# Altium schematic symbol library shield_SCH_LIB.SchLib: 12 symbols
Pins are listed as number, name and electrical type; pins without a type are passive.

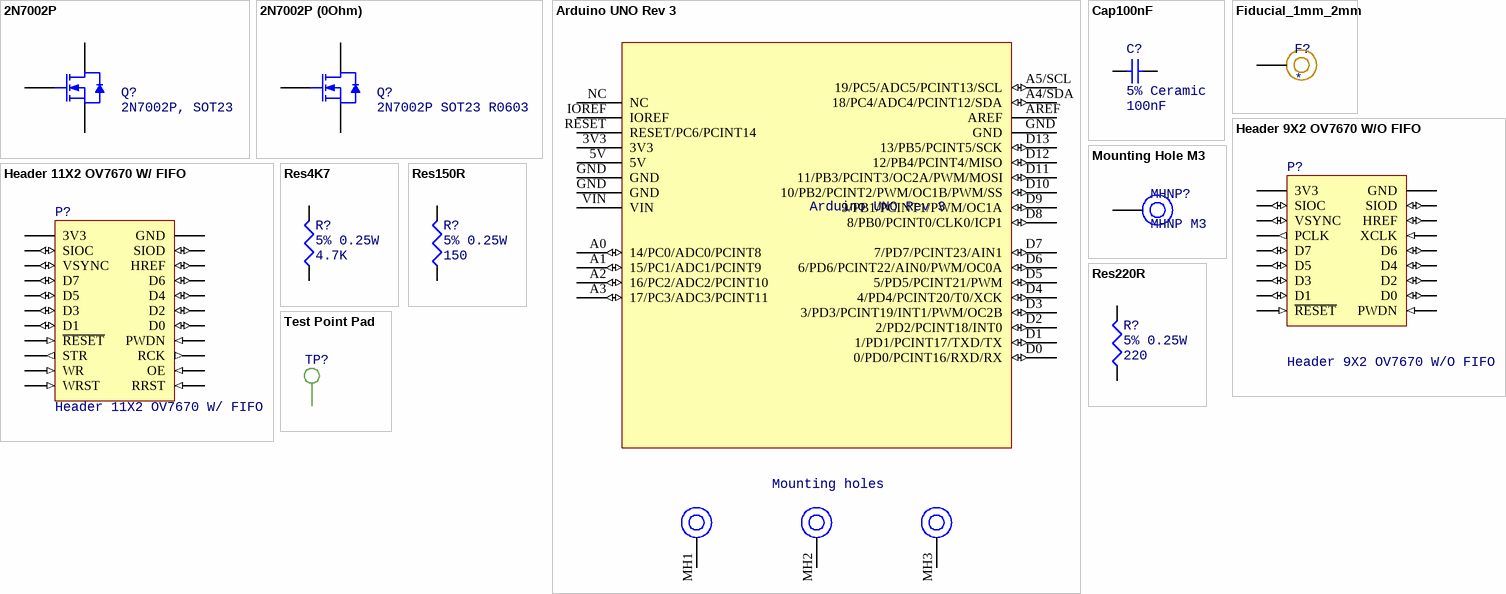
[diagram p0: symbols 2N7002P to Test Point Pad]

## 2N7002P
designator Q?, comment 2N7002P, SOT23
N-Channel MOSFET 2N7002P SOT23
footprint 2N7002P SOT23 (NMOS 2N7002P in SOT23 package)
pins: 1 G, 2 D, 3 S

## 2N7002P (0Ohm)
designator Q?, comment 2N7002P SOT23 R0603
N-Channel MOSFET 2N7002P SOT23 / version with footprint compatible with 0 Ohm 0603 resistor
footprint 2N7002P SOT23 WITH LARGE G,D PADS (NMOS 2N7002P in SOT23 package)
pins: 1 G, 2 D, 3 S

## Arduino UNO Rev 3
designator MCU?
Arduino UNO Rev 3 pinout
footprint Arduino UNO Rev 3 (Arduino UNO Rev 3 pinout as pads V2)
pins: 3V3 (power), 5V (power), A0 14/PC0/ADC0/PCINT8 (io), A1 15/PC1/ADC1/PCINT9 (io), A2 16/PC2/ADC2/PCINT10 (io), A3 17/PC3/ADC3/PCINT11 (io), A4/SDA 18/PC4/ADC4/PCINT12/SDA (io), A5/SCL 19/PC5/ADC5/PCINT13/SCL (io), AREF, D0 0/PD0/PCINT16/RXD/RX (io), D1 1/PD1/PCINT17/TXD/TX (io), D2 2/PD2/PCINT18/INT0 (io), D3 3/PD3/PCINT19/INT1/PWM/OC2B (io), D4 4/PD4/PCINT20/T0/XCK (io), D5 5/PD5/PCINT21/PWM (io), D6 6/PD6/PCINT22/AIN0/PWM/OC0A (io), D7 7/PD7/PCINT23/AIN1 (io), D8 8/PB0/PCINT0/CLK0/ICP1 (io), D9 9/PB1/PCINT1/PWM/OC1A (io), D10 10/PB2/PCINT2/PWM/OC1B/PWM/SS (io), D11 11/PB3/PCINT3/OC2A/PWM/MOSI (io), D12 12/PB4/PCINT4/MISO (io), D13 13/PB5/PCINT5/SCK (io), GND (power), GND (power), GND (power), IOREF, MH1, MH2, MH3, NC, RESET RESET/PC6/PCINT14, VIN (power)
text: Mounting holes

## Cap100nF
designator C?, comment 5% Ceramic  value 100nF
SMD Ceramic Capacitor 100nF 5% 0805; Published: 8-Jun-2000; LatestRevisionDate: 17-Jul-2002; LatestRevisionNote: Re-released for DXP Platform.; PackageReference: RAD-0.3; Publisher: Altium Limited; PackageDescription: Radial Cap, Thru-Hole; 2 Leads; 0.3 in Pin Spacing
footprint 0805 CAP
pins: 1, 2

## Fiducial_1mm_2mm
designator F?
Fiducial 1mm pad, 2mm solder resist
footprint FIDUCIAL_1MM_2MM
pins: 1

## Header 9X2 OV7670 W/O FIFO
designator P?
Header, 9-Pin, Dual row. Pinout of OV7670 module without FIFO buffer.; Publisher: Altium Limited
signal-integrity model Connector
footprint 9x2 PIN HEADER (9x2 pin header THT100mil x 100mil)
pins: 1 3V3 (power), 2 GND (power), 3 SIOC (io), 4 SIOD (io), 5 VSYNC (io), 6 HREF (io), 7 PCLK (out), 8 XCLK (in), 9 D7 (io), 10 D6 (io), 11 D5 (io), 12 D4 (io), 13 D3 (io), 14 D2 (io), 15 D1 (io), 16 D0 (io), 17 ~{RESET} (in), 18 PWDN (in)

## Header 11X2 OV7670 W/ FIFO
designator P?
Header, 11-Pin, Dual row. Pinout of OV7670 module with FIFO buffer.; LatestRevisionDate: 17-Jul-2002; LatestRevisionNote: Re-released for DXP Platform.; Publisher: Altium Limited
signal-integrity model Connector
footprint 11x2 PIN HEADER (11x2 pin header THT100mil x 100mil)
pins: 1 3V3 (power), 2 GND, 3 SIOC (io), 4 SIOD (io), 5 VSYNC (io), 6 HREF (io), 7 D7 (io), 8 D6 (io), 9 D5 (io), 10 D4 (io), 11 D3 (io), 12 D2 (io), 13 D1 (io), 14 D0 (io), 15 ~{RESET} (in), 16 PWDN (in), 17 STR (out), 18 RCK (out), 19 WR (in), 20 OE (in), 21 WRST (in), 22 RRST (in)

## Mounting Hole M3
designator MHNP?, comment MHNP M3
Non-Plated mounting hole. Metric 3 (hole of 3.10 mm in diameter).
footprint MOUNTING HOLE
pins: 0

## Res4K7
designator R?, comment 5% 0.25W  value 4.7K
SMD Resistor 4.7 KOhm 5% 0.1W 0603; Published: 8-Jun-2000; LatestRevisionDate: 29-May-2009; LatestRevisionNote: IPC-7351 Footprint Added.; PackageReference: J1-0603; Publisher: Altium Limited; PackageDescription: Chip Resistor
footprint 0603 RES
pins: 1, 2

## Res150R
designator R?, comment 5% 0.25W  value 150
SMD Resistor 150 Ohm 5% 0.25W 0603; Published: 8-Jun-2000; LatestRevisionDate: 29-May-2009; LatestRevisionNote: IPC-7351 Footprint Added.; PackageReference: J1-0603; Publisher: Altium Limited; PackageDescription: Chip Resistor
footprint 0603 RES
pins: 1, 2

## Res220R
designator R?, comment 5% 0.25W  value 220
SMD Resistor 220 Ohm 5% 0.25W 0603; Published: 8-Jun-2000; LatestRevisionDate: 29-May-2009; LatestRevisionNote: IPC-7351 Footprint Added.; PackageReference: J1-0603; Publisher: Altium Limited; PackageDescription: Chip Resistor
footprint 0603 RES
pins: 1, 2

## Test Point Pad
designator TP?
Test point - PCB Pad type.
footprint TEST POINT PAD
pins: 1